# Altium schematic symbol library ULN2803A.Schlib: 1 symbol
Pins are listed as number, name and electrical type; pins without a type are passive.

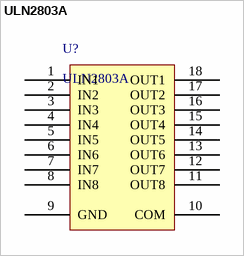
[diagram p0: symbol ULN2803A]

## ULN2803A
designator U?
pins: 1 IN1, 2 IN2, 3 IN3, 4 IN4, 5 IN5, 6 IN6, 7 IN7, 8 IN8, 9 GND, 10 COM, 11 OUT8, 12 OUT7, 13 OUT6, 14 OUT5, 15 OUT4, 16 OUT3, 17 OUT2, 18 OUT1